# EAGLE library part HDSP-077X (library 7Segments)
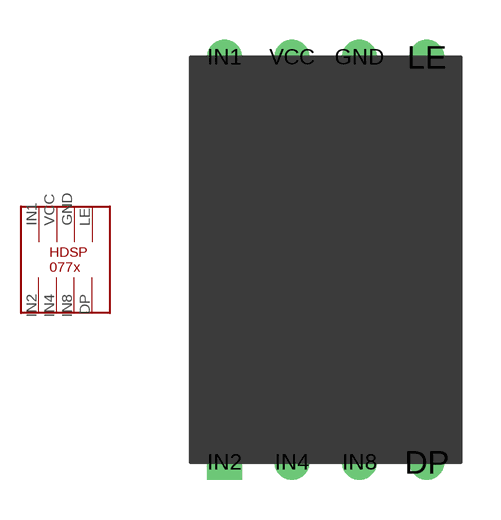
[diagram p0: symbol with the pads of HDSP-077X; footprint HDSP-077X]

Designator prefix -

## HDSP-077X  [HDSP-077X]
DP  DP
GND  GND
IN1  IN1
IN2  IN2
IN4  IN4
IN8  IN8
LE  LE
VCC  VCC

## Footprint HDSP-077X (pad centres in mm)
drill 0.8: DP 7.62,-15.24; GND 5.08,0; IN1 0,0; IN4 2.54,-15.24; IN8 5.08,-15.24; LE 7.62,0; VCC 2.54,0
drill 0.8 square: IN2 0,-15.24